# EAGLE library part ML26 (library RT5350F_OLinuXino_Rev_B)
HARTING
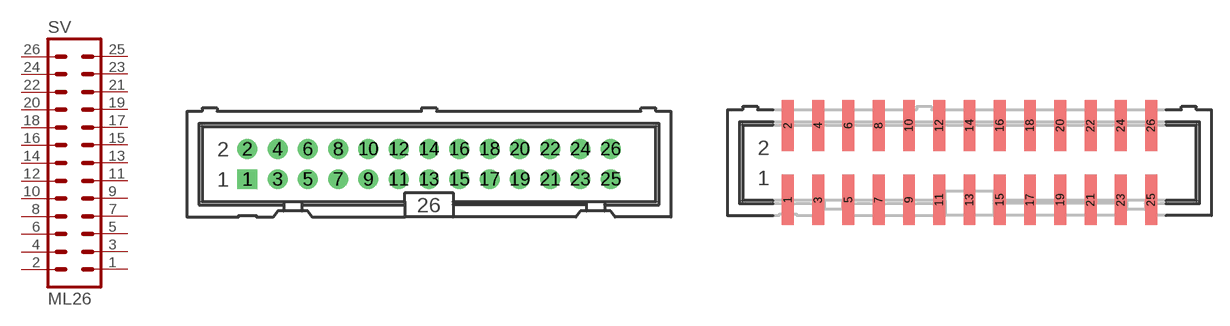
[diagram p4: symbol with the pads of ML26; footprints ML26, ML26-MALE(GBH-254-SMT-26)]

Designator prefix SV

## ML26  [ML26]
1  1  pas
2  2  pas
3  3  pas
4  4  pas
5  5  pas
6  6  pas
7  7  pas
8  8  pas
9  9  pas
10  10  pas
11  11  pas
12  12  pas
13  13  pas
14  14  pas
15  15  pas
16  16  pas
17  17  pas
18  18  pas
19  19  pas
20  20  pas
21  21  pas
22  22  pas
23  23  pas
24  24  pas
25  25  pas
26  26  pas

## ML26-GBH-254-SMT-26  [ML26-MALE(GBH-254-SMT-26)]
Pads as for ML26

## ML26-F-V50X-2X13-LFFEMALE  [F-V50X-2X13-LF]
Pads as for ML26

## ML26-TE_CONNECTIVITY_2-84982-6  [TE_CONNECTIVITY_2-84982-6(FFC_CON_POS:26_PITCH:1.00MM)]
Pads as for ML26

## ML263M  [3M_26]
Pads as for ML26

## ML263ML  [3M_26L]
Pads as for ML26

## ML26HN2X13  [HN2X13-MALE]
Pads as for ML26

## ML26IDC26S/PCB  [ML26-FEMALE(IDC26S/PCB)]
Pads as for ML26

## ML26IDC26S/PCB_PADS  [ML26L_PADS-FEMALE(IDC26S/PCB)]
Pads as for ML26

## ML26L  [ML26L]
Pads as for ML26

## ML26PN2X13  [PN2X13]
Pads as for ML26

## ML26R  [BH26R]
Pads as for ML26

## Footprint ML26 (pad centres in mm)
HARTING
drill 1.016 pad 1.676 square: 1 -15.24,-1.27
drill 1.016 pad 1.676: 2 -15.24,1.27; 3 -12.7,-1.27; 4 -12.7,1.27; 5 -10.16,-1.27; 6 -10.16,1.27; 7 -7.62,-1.27; 8 -7.62,1.27; 9 -5.08,-1.27; 10 -5.08,1.27; 11 -2.54,-1.27; 12 -2.54,1.27; 13 0,-1.27; 14 0,1.27; 15 2.54,-1.27; 16 2.54,1.27; 17 5.08,-1.27; 18 5.08,1.27; 19 7.62,-1.27; 20 7.62,1.27; 21 10.16,-1.27; 22 10.16,1.27; 23 12.7,-1.27; 24 12.7,1.27; 25 15.24,-1.27; 26 15.24,1.27

## Footprint ML26-MALE(GBH-254-SMT-26) (pad centres in mm)
smd 1 x 4.25: 1 -15.24,-3.125; 2 -15.24,3.125; 3 -12.7,-3.125; 4 -12.7,3.125; 5 -10.16,-3.125; 6 -10.16,3.125; 7 -7.62,-3.125; 8 -7.62,3.125; 9 -5.08,-3.125; 10 -5.08,3.125; 11 -2.54,-3.125; 12 -2.54,3.125; 13 0,-3.125; 14 0,3.125; 15 2.54,-3.125; 16 2.54,3.125; 17 5.08,-3.125; 18 5.08,3.125; 19 7.62,-3.125; 20 7.62,3.125; 21 10.16,-3.125; 22 10.16,3.125; 23 12.7,-3.125; 24 12.7,3.125; 25 15.24,-3.125; 26 15.24,3.125

## Footprint F-V50X-2X13-LF (pad centres in mm)
smd 1.016 x 2.54: 1 -15.24,2.794; 2 -15.24,-2.794; 3 -12.7,2.794; 4 -12.7,-2.794; 5 -10.16,2.794; 6 -10.16,-2.794; 7 -7.62,2.794; 8 -7.62,-2.794; 9 -5.08,2.794; 10 -5.08,-2.794; 11 -2.54,2.794; 12 -2.54,-2.794; 13 0,2.794; 14 0,-2.794; 15 2.54,2.794; 16 2.54,-2.794; 17 5.08,2.794; 18 5.08,-2.794; 19 7.62,2.794; 20 7.62,-2.794; 21 10.16,2.794; 22 10.16,-2.794; 23 12.7,2.794; 24 12.7,-2.794; 25 15.24,2.794; 26 15.24,-2.794
hole 1.4 at -13.97,0
hole 1.4 at 13.97,0

## Footprint TE_CONNECTIVITY_2-84982-6(FFC_CON_POS:26_PITCH:1.00MM) (pad centres in mm)
TE Connectivity_2-84982-6 This package was designed by Penko according to the TE Connectivity's 2-84982-6 datasheet and initially used in UBI-CPU board. Description: Connector, FFC/FPC, Vertical, 26 positions, 1mm, SMD Pitch:1.00mm Dimensions: 28.00x3.00x5.60mm Supplier: http://www.digikey.com/product-detail/en/2-84982-6/A101385CT-ND/2567521
smd 0.6 x 1.7: 1 -12.5,-1.75; 3 -10.5,-1.75; 5 -8.5,-1.75; 7 -6.5,-1.75; 9 -4.5,-1.75; 11 -2.5,-1.75; 13 -0.5,-1.75; 15 1.5,-1.75; 17 3.5,-1.75; 19 5.5,-1.75; 21 7.5,-1.75; 23 9.5,-1.75; 25 11.5,-1.75
smd 0.6 x 1.9: 2 -11.5,1.85; 4 -9.5,1.85; 6 -7.5,1.85; 8 -5.5,1.85; 10 -3.5,1.85; 12 -1.5,1.85; 14 0.5,1.85; 16 2.5,1.85; 18 4.5,1.85; 20 6.5,1.85; 22 8.5,1.85; 24 10.5,1.85; 26 12.5,1.85

## Footprint 3M_26 (pad centres in mm)
3M
drill 0.813 square: 1 -15.24,-1.27; 2 -15.24,1.27; 3 -12.7,-1.27; 4 -12.7,1.27; 5 -10.16,-1.27; 6 -10.16,1.27; 7 -7.62,-1.27; 8 -7.62,1.27; 9 -5.08,-1.27; 10 -5.08,1.27; 11 -2.54,-1.27; 12 -2.54,1.27; 13 0,-1.27; 14 0,1.27; 15 2.54,-1.27; 16 2.54,1.27; 17 5.08,-1.27; 18 5.08,1.27; 19 7.62,-1.27; 20 7.62,1.27; 21 10.16,-1.27; 22 10.16,1.27; 23 12.7,-1.27; 24 12.7,1.27; 25 15.24,-1.27; 26 15.24,1.27

## Footprint 3M_26L (pad centres in mm)
3M
drill 0.813 square: 1 -15.24,-5.08; 2 -15.24,-2.54; 3 -12.7,-5.08; 4 -12.7,-2.54; 5 -10.16,-5.08; 6 -10.16,-2.54; 7 -7.62,-5.08; 8 -7.62,-2.54; 9 -5.08,-5.08; 10 -5.08,-2.54; 11 -2.54,-5.08; 12 -2.54,-2.54; 13 0,-5.08; 14 0,-2.54; 15 2.54,-5.08; 16 2.54,-2.54; 17 5.08,-5.08; 18 5.08,-2.54; 19 7.62,-5.08; 20 7.62,-2.54; 21 10.16,-5.08; 22 10.16,-2.54; 23 12.7,-5.08; 24 12.7,-2.54; 25 15.24,-5.08; 26 15.24,-2.54
hole 2.54 at -21.158,-3.277
hole 2.54 at 21.158,-3.277

## Footprint HN2X13-MALE (pad centres in mm)
drill 1.016 pad 1.676 square: 1 -15.24,-1.27
drill 1.016 pad 1.676: 2 -15.24,1.27; 3 -12.7,-1.27; 4 -12.7,1.27; 5 -10.16,-1.27; 6 -10.16,1.27; 7 -7.62,-1.27; 8 -7.62,1.27; 9 -5.08,-1.27; 10 -5.08,1.27; 11 -2.54,-1.27; 12 -2.54,1.27; 13 0,-1.27; 14 0,1.27; 15 2.54,-1.27; 16 2.54,1.27; 17 5.08,-1.27; 18 5.08,1.27; 19 7.62,-1.27; 20 7.62,1.27; 21 10.16,-1.27; 22 10.16,1.27; 23 12.7,-1.27; 24 12.7,1.27; 25 15.24,-1.27; 26 15.24,1.27

## Footprint ML26-FEMALE(IDC26S/PCB) (pad centres in mm)
drill 1.016 pad 1.676 square: 1 -15.24,1.27
drill 1.016 pad 1.676: 2 -15.24,-1.27; 3 -12.7,1.27; 4 -12.7,-1.27; 5 -10.16,1.27; 6 -10.16,-1.27; 7 -7.62,1.27; 8 -7.62,-1.27; 9 -5.08,1.27; 10 -5.08,-1.27; 11 -2.54,1.27; 12 -2.54,-1.27; 13 0,1.27; 14 0,-1.27; 15 2.54,1.27; 16 2.54,-1.27; 17 5.08,1.27; 18 5.08,-1.27; 19 7.62,1.27; 20 7.62,-1.27; 21 10.16,1.27; 22 10.16,-1.27; 23 12.7,1.27; 24 12.7,-1.27; 25 15.24,1.27; 26 15.24,-1.27

## Footprint ML26L_PADS-FEMALE(IDC26S/PCB) (pad centres in mm)
smd 1.651 x 3.683: 1 15.24,-3.404; 3 12.7,-3.404; 5 10.16,-3.404; 7 7.62,-3.404; 9 5.08,-3.404; 11 2.54,-3.404; 13 0,-3.404; 15 -2.54,-3.404; 17 -5.08,-3.404; 19 -7.62,-3.404; 21 -10.16,-3.404; 23 -12.7,-3.404; 25 -15.24,-3.404
smd 1.651 x 3.683 bottom: 2 15.24,-3.404; 4 12.7,-3.404; 6 10.16,-3.404; 8 7.62,-3.404; 10 5.08,-3.404; 12 2.54,-3.404; 14 0,-3.404; 16 -2.54,-3.404; 18 -5.08,-3.404; 20 -7.62,-3.404; 22 -10.16,-3.404; 24 -12.7,-3.404; 26 -15.24,-3.404

## Footprint ML26L (pad centres in mm)
HARTING
drill 1 square: 1 -15.24,-1.27
drill 1: 2 -15.24,1.27; 3 -12.7,-1.27; 4 -12.7,1.27; 5 -10.16,-1.27; 6 -10.16,1.27; 7 -7.62,-1.27; 8 -7.62,1.27; 9 -5.08,-1.27; 10 -5.08,1.27; 11 -2.54,-1.27; 12 -2.54,1.27; 13 0,-1.27; 14 0,1.27; 15 2.54,-1.27; 16 2.54,1.27; 17 5.08,-1.27; 18 5.08,1.27; 19 7.62,-1.27; 20 7.62,1.27; 21 10.16,-1.27; 22 10.16,1.27; 23 12.7,-1.27; 24 12.7,1.27; 25 15.24,-1.27; 26 15.24,1.27

## Footprint PN2X13 (pad centres in mm)
female
drill 1.016 pad 1.676 square: 1 -15.24,1.27
drill 1.016 pad 1.676: 2 -15.24,-1.27; 3 -12.7,1.27; 4 -12.7,-1.27; 5 -10.16,1.27; 6 -10.16,-1.27; 7 -7.62,1.27; 8 -7.62,-1.27; 9 -5.08,1.27; 10 -5.08,-1.27; 11 -2.54,1.27; 12 -2.54,-1.27; 13 0,1.27; 14 0,-1.27; 15 2.54,1.27; 16 2.54,-1.27; 17 5.08,1.27; 18 5.08,-1.27; 19 7.62,1.27; 20 7.62,-1.27; 21 10.16,1.27; 22 10.16,-1.27; 23 12.7,1.27; 24 12.7,-1.27; 25 15.24,1.27; 26 15.24,-1.27

## Footprint BH26R (pad centres in mm)
HARTING , but silkscreen with 1mm protrusion, suitable for Olimex BH26R edited by Yassen
drill 1 square: 1 -15.24,-1.27
drill 1: 2 -15.24,1.27; 3 -12.7,-1.27; 4 -12.7,1.27; 5 -10.16,-1.27; 6 -10.16,1.27; 7 -7.62,-1.27; 8 -7.62,1.27; 9 -5.08,-1.27; 10 -5.08,1.27; 11 -2.54,-1.27; 12 -2.54,1.27; 13 0,-1.27; 14 0,1.27; 15 2.54,-1.27; 16 2.54,1.27; 17 5.08,-1.27; 18 5.08,1.27; 19 7.62,-1.27; 20 7.62,1.27; 21 10.16,-1.27; 22 10.16,1.27; 23 12.7,-1.27; 24 12.7,1.27; 25 15.24,-1.27; 26 15.24,1.27